# Altium footprint library Con 050 DSubminiature.PcbLib: 112 footprints (part 4 of 7)
Each footprint in its own frame and in the unit in brackets; x right, y up, seen from the top. Pads: shape width x height; smd on the part's side, far side on the other; paste and mask are expansions set on the pad; w line width, h text height; cw(c..) or ccw(c..) is an arc to the next point about the centre after c.
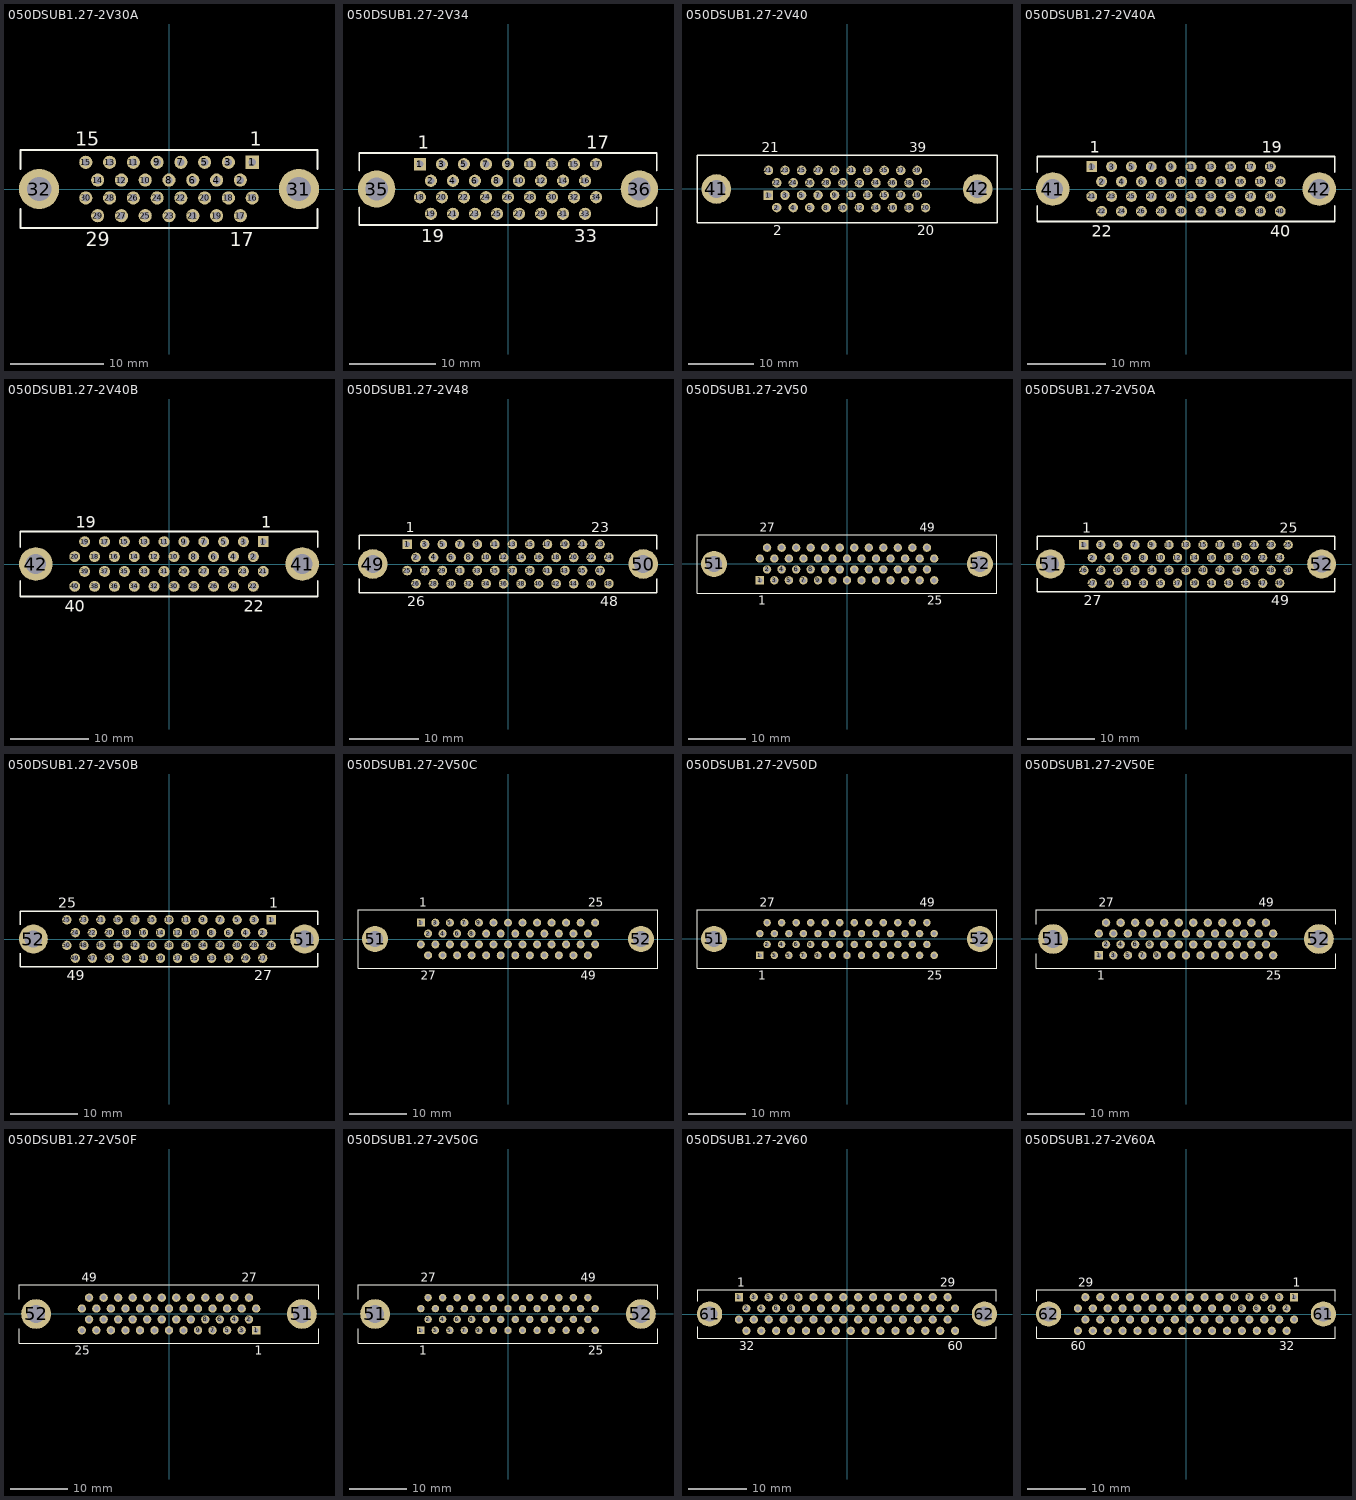
[diagram p3: the footprints below, top view; thin cyan lines are the x and y axes]

## 050DSUB1.27-2V30A [mm] "Connector; D Subminiature 050 Series; 30 Position; Vertical"
height 7.7
pads (32):
  rect 1.4x1.4 hole 0.8: 1(8.89,2.857)
  round 1.4 hole 0.8: 2(7.62,0.953) 3(6.35,2.857) 4(5.08,0.953) 5(3.81,2.857) 6(2.54,0.953) 7(1.27,2.857) 8(0,0.953) 9(-1.27,2.857) 10(-2.54,0.953) 11(-3.81,2.857) 12(-5.08,0.953) 13(-6.35,2.857) 14(-7.62,0.953) 15(-8.89,2.857) 16(8.89,-0.953) 17(7.62,-2.857) 18(6.35,-0.953) 19(5.08,-2.857) 20(3.81,-0.953) 21(2.54,-2.857) 22(1.27,-0.953) 23(0,-2.857) 24(-1.27,-0.953) 25(-2.54,-2.857) 26(-3.81,-0.953) 27(-5.08,-2.857) 28(-6.35,-0.953) 29(-7.62,-2.857) 30(-8.89,-0.953)
  round 4.3 hole 2.6: 31(13.875,0) 32(-13.875,0)
Top Overlay:
  lines w0.2: -15.875,-2.146 -15.875,-4.157 15.875,-4.157 15.875,-2.146 ; -15.875,2.146 -15.875,4.157 15.875,4.157 15.875,2.146
  text "17" at 6.495,-6.132 h1.5
  text "29" at -8.87,-6.132 h1.5
  text "15" at -10.015,4.633 h1.5
  text "1" at 8.64,4.633 h1.5

## 050DSUB1.27-2V34 [mm] "Connector; D Subminiature 050 Series; 34 Position; Vertical"
height 9.3
pads (36):
  rect 1.4x1.4 hole 0.8: 1(-10.16,2.857)
  round 1.4 hole 0.8: 2(-8.89,0.953) 3(-7.62,2.857) 4(-6.35,0.953) 5(-5.08,2.857) 6(-3.81,0.953) 7(-2.54,2.857) 8(-1.27,0.953) 9(0,2.857) 10(1.27,0.953) 11(2.54,2.857) 12(3.81,0.953) 13(5.08,2.857) 14(6.35,0.953) 15(7.62,2.857) 16(8.89,0.953) 17(10.16,2.857) 18(-10.16,-0.953) 19(-8.89,-2.857) 20(-7.62,-0.953) 21(-6.35,-2.857) 22(-5.08,-0.953) 23(-3.81,-2.857) 24(-2.54,-0.953) 25(-1.27,-2.857) 26(0,-0.953) 27(1.27,-2.857) 28(2.54,-0.953) 29(3.81,-2.857) 30(5.08,-0.953) 31(6.35,-2.857) 32(7.62,-0.953) 33(8.89,-2.857) 34(10.16,-0.953)
  round 4.3 hole 2.6: 35(-15.145,0) 36(15.145,0)
Top Overlay:
  lines w0.2: -17.145,-2.146 -17.145,-4.157 17.145,-4.157 17.145,-2.146 ; -17.145,2.146 -17.145,4.157 17.145,4.157 17.145,2.146
  text "1" at -10.41,4.633 h1.5
  text "17" at 9.035,4.633 h1.5
  text "19" at -10.015,-6.132 h1.5
  text "33" at 7.64,-6.132 h1.5

## 050DSUB1.27-2V40 [mm] "Connector; D Subminiature 050 Series; 40 Position; Vertical"
height 9.04
pads (42):
  rect 1.46x1.46 hole 0.86: 1(-12.065,-0.953)
  round 1.46 hole 0.86: 2(-10.795,-2.857) 3(-9.525,-0.953) 4(-8.255,-2.857) 5(-6.985,-0.953) 6(-5.715,-2.857) 7(-4.445,-0.953) 8(-3.175,-2.857) 9(-1.905,-0.953) 10(-0.635,-2.857) 11(0.635,-0.953) 12(1.905,-2.857) 13(3.175,-0.953) 14(4.445,-2.857) 15(5.715,-0.953) 16(6.985,-2.857) 17(8.255,-0.953) 18(9.525,-2.857) 19(10.795,-0.953) 20(12.065,-2.857) 21(-12.065,2.857) 22(-10.795,0.953) 23(-9.525,2.857) 24(-8.255,0.953) 25(-6.985,2.857) 26(-5.715,0.953) 27(-4.445,2.857) 28(-3.175,0.953) 29(-1.905,2.857) 30(-0.635,0.953) 31(0.635,2.857) 32(1.905,0.953) 33(3.175,2.857) 34(4.445,0.953) 35(5.715,2.857) 36(6.985,0.953) 37(8.255,2.857) 38(9.525,0.953) 39(10.795,2.857) 40(12.065,0.953)
  round 4.55 hole 2.77: 41(-20.065,0) 42(20.065,0)
Top Overlay:
  lines w0.2: -23.05,-5.155 -23.05,5.155 23.05,5.155 23.05,-5.155 -23.05,-5.155
  text "21" at -13.065,5.63 h1.5
  text "39" at 9.545,5.63 h1.5
  text "2" at -11.295,-7.13 h1.5
  text "20" at 10.815,-7.13 h1.5

## 050DSUB1.27-2V40A [mm] "Connector; D Subminiature 050 Series; 40 Position; Vertical"
height 9.3
pads (42):
  rect 1.4x1.4 hole 0.8: 1(-12.065,2.857)
  round 1.4 hole 0.8: 2(-10.795,0.953) 3(-9.525,2.857) 4(-8.255,0.953) 5(-6.985,2.857) 6(-5.715,0.953) 7(-4.445,2.857) 8(-3.175,0.953) 9(-1.905,2.857) 10(-0.635,0.953) 11(0.635,2.857) 12(1.905,0.953) 13(3.175,2.857) 14(4.445,0.953) 15(5.715,2.857) 16(6.985,0.953) 17(8.255,2.857) 18(9.525,0.953) 19(10.795,2.857) 20(12.065,0.953) 21(-12.065,-0.953) 22(-10.795,-2.857) 23(-9.525,-0.953) 24(-8.255,-2.857) 25(-6.985,-0.953) 26(-5.715,-2.857) 27(-4.445,-0.953) 28(-3.175,-2.857) 29(-1.905,-0.953) 30(-0.635,-2.857) 31(0.635,-0.953) 32(1.905,-2.857) 33(3.175,-0.953) 34(4.445,-2.857) 35(5.715,-0.953) 36(6.985,-2.857) 37(8.255,-0.953) 38(9.525,-2.857) 39(10.795,-0.953) 40(12.065,-2.857)
  round 4.3 hole 2.6: 41(-17.05,0) 42(17.05,0)
Top Overlay:
  lines w0.2: -19.05,-2.146 -19.05,-4.157 19.05,-4.157 19.05,-2.146 ; -19.05,2.146 -19.05,4.157 19.05,4.157 19.05,2.146
  text "1" at -12.315,4.633 h1.5
  text "22" at -12.045,-6.132 h1.5
  text "40" at 10.815,-6.132 h1.5
  text "19" at 9.67,4.633 h1.5

## 050DSUB1.27-2V40B [mm] "Connector; D Subminiature 050 Series; 40 Position; Vertical"
height 7.7
pads (42):
  rect 1.4x1.4 hole 0.8: 1(12.065,2.857)
  round 1.4 hole 0.8: 2(10.795,0.953) 3(9.525,2.857) 4(8.255,0.953) 5(6.985,2.857) 6(5.715,0.953) 7(4.445,2.857) 8(3.175,0.953) 9(1.905,2.857) 10(0.635,0.953) 11(-0.635,2.857) 12(-1.905,0.953) 13(-3.175,2.857) 14(-4.445,0.953) 15(-5.715,2.857) 16(-6.985,0.953) 17(-8.255,2.857) 18(-9.525,0.953) 19(-10.795,2.857) 20(-12.065,0.953) 21(12.065,-0.953) 22(10.795,-2.857) 23(9.525,-0.953) 24(8.255,-2.857) 25(6.985,-0.953) 26(5.715,-2.857) 27(4.445,-0.953) 28(3.175,-2.857) 29(1.905,-0.953) 30(0.635,-2.857) 31(-0.635,-0.953) 32(-1.905,-2.857) 33(-3.175,-0.953) 34(-4.445,-2.857) 35(-5.715,-0.953) 36(-6.985,-2.857) 37(-8.255,-0.953) 38(-9.525,-2.857) 39(-10.795,-0.953) 40(-12.065,-2.857)
  round 4.3 hole 2.6: 41(17.05,0) 42(-17.05,0)
Top Overlay:
  lines w0.2: -19.05,-2.146 -19.05,-4.157 19.05,-4.157 19.05,-2.146 ; -19.05,2.146 -19.05,4.157 19.05,4.157 19.05,2.146
  text "22" at 9.545,-6.132 h1.5
  text "40" at -13.315,-6.132 h1.5
  text "19" at -11.92,4.633 h1.5
  text "1" at 11.815,4.633 h1.5

## 050DSUB1.27-2V48 [mm] "Connector; D Subminiature 050 Series; 48 Position; Vertical"
height 9.3
pads (50):
  rect 1.4x1.4 hole 0.8: 1(-14.605,2.857)
  round 1.4 hole 0.8: 2(-13.335,0.953) 3(-12.065,2.857) 4(-10.795,0.953) 5(-9.525,2.857) 6(-8.255,0.953) 7(-6.985,2.857) 8(-5.715,0.953) 9(-4.445,2.857) 10(-3.175,0.953) 11(-1.905,2.857) 12(-0.635,0.953) 13(0.635,2.857) 14(1.905,0.953) 15(3.175,2.857) 16(4.445,0.953) 17(5.715,2.857) 18(6.985,0.953) 19(8.255,2.857) 20(9.525,0.953) 21(10.795,2.857) 22(12.065,0.953) 23(13.335,2.857) 24(14.605,0.953) 25(-14.605,-0.953) 26(-13.335,-2.857) 27(-12.065,-0.953) 28(-10.795,-2.857) 29(-9.525,-0.953) 30(-8.255,-2.857) 31(-6.985,-0.953) 32(-5.715,-2.857) 33(-4.445,-0.953) 34(-3.175,-2.857) 35(-1.905,-0.953) 36(-0.635,-2.857) 37(0.635,-0.953) 38(1.905,-2.857) 39(3.175,-0.953) 40(4.445,-2.857) 41(5.715,-0.953) 42(6.985,-2.857) 43(8.255,-0.953) 44(9.525,-2.857) 45(10.795,-0.953) 46(12.065,-2.857) 47(13.335,-0.953) 48(14.605,-2.857)
  round 4.3 hole 2.6: 49(-19.59,0) 50(19.59,0)
Top Overlay:
  lines w0.2: -21.59,-2.146 -21.59,-4.157 21.59,-4.157 21.59,-2.146 ; -21.59,2.146 -21.59,4.157 21.59,4.157 21.59,2.146
  text "1" at -14.855,4.633 h1.5
  text "23" at 12.085,4.633 h1.5
  text "26" at -14.585,-6.132 h1.5
  text "48" at 13.355,-6.132 h1.5

## 050DSUB1.27-2V50 [mm] "Connector; D Subminiature 050 Series; 50 Position; Vertical"
height 9.04
pads (52):
  rect 1.46x1.46 hole 0.86: 1(-15.24,-2.857)
  round 1.46 hole 0.86: 2(-13.97,-0.953) 3(-12.7,-2.857) 4(-11.43,-0.953) 5(-10.16,-2.857) 6(-8.89,-0.953) 7(-7.62,-2.857) 8(-6.35,-0.953) 9(-5.08,-2.857) 10(-3.81,-0.953) 11(-2.54,-2.857) 12(-1.27,-0.953) 13(0,-2.857) 14(1.27,-0.953) 15(2.54,-2.857) 16(3.81,-0.953) 17(5.08,-2.857) 18(6.35,-0.953) 19(7.62,-2.857) 20(8.89,-0.953) 21(10.16,-2.857) 22(11.43,-0.953) 23(12.7,-2.857) 24(13.97,-0.953) 25(15.24,-2.857) 26(-15.24,0.953) 27(-13.97,2.857) 28(-12.7,0.953) 29(-11.43,2.857) 30(-10.16,0.953) 31(-8.89,2.857) 32(-7.62,0.953) 33(-6.35,2.857) 34(-5.08,0.953) 35(-3.81,2.857) 36(-2.54,0.953) 37(-1.27,2.857) 38(0,0.953) 39(1.27,2.857) 40(2.54,0.953) 41(3.81,2.857) 42(5.08,0.953) 43(6.35,2.857) 44(7.62,0.953) 45(8.89,2.857) 46(10.16,0.953) 47(11.43,2.857) 48(12.7,0.953) 49(13.97,2.857) 50(15.24,0.953)
  round 4.55 hole 2.77: 51(-23.24,0) 52(23.24,0)
Top Overlay:
  lines w0.2: -26.225,-5.155 26.225,-5.155 26.225,5.155 -26.225,5.155 -26.225,-5.155
  text "49" at 12.72,5.63 h1.5
  text "27" at -15.22,5.63 h1.5
  text "25" at 13.99,-7.13 h1.5
  text "1" at -15.49,-7.13 h1.5

## 050DSUB1.27-2V50A [mm] "Connector; D Subminiature 050 Series; 50 Position; Vertical"
height 9.3
pads (52):
  rect 1.4x1.4 hole 0.8: 1(-15.24,2.857)
  round 1.4 hole 0.8: 2(-13.97,0.953) 3(-12.7,2.857) 4(-11.43,0.953) 5(-10.16,2.857) 6(-8.89,0.953) 7(-7.62,2.857) 8(-6.35,0.953) 9(-5.08,2.857) 10(-3.81,0.953) 11(-2.54,2.857) 12(-1.27,0.953) 13(0,2.857) 14(1.27,0.953) 15(2.54,2.857) 16(3.81,0.953) 17(5.08,2.857) 18(6.35,0.953) 19(7.62,2.857) 20(8.89,0.953) 21(10.16,2.857) 22(11.43,0.953) 23(12.7,2.857) 24(13.97,0.953) 25(15.24,2.857) 26(-15.24,-0.953) 27(-13.97,-2.857) 28(-12.7,-0.953) 29(-11.43,-2.857) 30(-10.16,-0.953) 31(-8.89,-2.857) 32(-7.62,-0.953) 33(-6.35,-2.857) 34(-5.08,-0.953) 35(-3.81,-2.857) 36(-2.54,-0.953) 37(-1.27,-2.857) 38(0,-0.953) 39(1.27,-2.857) 40(2.54,-0.953) 41(3.81,-2.857) 42(5.08,-0.953) 43(6.35,-2.857) 44(7.62,-0.953) 45(8.89,-2.857) 46(10.16,-0.953) 47(11.43,-2.857) 48(12.7,-0.953) 49(13.97,-2.857) 50(15.24,-0.953)
  round 4.3 hole 2.6: 51(-20.225,0) 52(20.225,0)
Top Overlay:
  lines w0.2: -22.225,-2.146 -22.225,-4.157 22.225,-4.157 22.225,-2.146 ; -22.225,2.146 -22.225,4.157 22.225,4.157 22.225,2.146
  text "27" at -15.22,-6.132 h1.5
  text "49" at 12.72,-6.132 h1.5
  text "25" at 13.99,4.633 h1.5
  text "1" at -15.49,4.633 h1.5

## 050DSUB1.27-2V50B [mm] "Connector; D Subminiature 050 Series; 50 Position; Vertical"
height 7.7
pads (52):
  rect 1.4x1.4 hole 0.8: 1(15.24,2.857)
  round 1.4 hole 0.8: 2(13.97,0.953) 3(12.7,2.857) 4(11.43,0.953) 5(10.16,2.857) 6(8.89,0.953) 7(7.62,2.857) 8(6.35,0.953) 9(5.08,2.857) 10(3.81,0.953) 11(2.54,2.857) 12(1.27,0.953) 13(0,2.857) 14(-1.27,0.953) 15(-2.54,2.857) 16(-3.81,0.953) 17(-5.08,2.857) 18(-6.35,0.953) 19(-7.62,2.857) 20(-8.89,0.953) 21(-10.16,2.857) 22(-11.43,0.953) 23(-12.7,2.857) 24(-13.97,0.953) 25(-15.24,2.857) 26(15.24,-0.953) 27(13.97,-2.857) 28(12.7,-0.953) 29(11.43,-2.857) 30(10.16,-0.953) 31(8.89,-2.857) 32(7.62,-0.953) 33(6.35,-2.857) 34(5.08,-0.953) 35(3.81,-2.857) 36(2.54,-0.953) 37(1.27,-2.857) 38(0,-0.953) 39(-1.27,-2.857) 40(-2.54,-0.953) 41(-3.81,-2.857) 42(-5.08,-0.953) 43(-6.35,-2.857) 44(-7.62,-0.953) 45(-8.89,-2.857) 46(-10.16,-0.953) 47(-11.43,-2.857) 48(-12.7,-0.953) 49(-13.97,-2.857) 50(-15.24,-0.953)
  round 4.3 hole 2.6: 51(20.225,0) 52(-20.225,0)
Top Overlay:
  lines w0.2: -22.225,-2.146 -22.225,-4.157 22.225,-4.157 22.225,-2.146 ; -22.225,2.146 -22.225,4.157 22.225,4.157 22.225,2.146
  text "27" at 12.72,-6.132 h1.5
  text "49" at -15.22,-6.132 h1.5
  text "25" at -16.49,4.633 h1.5
  text "1" at 14.99,4.633 h1.5

## 050DSUB1.27-2V50C [mm] "Connector; D Subminiature 050 Series; 50 Position; Vertical"
height 9.5
pads (52):
  rect 1.4x1.4 hole 0.8: 1(-15.24,2.857)
  round 1.4 hole 0.8: 2(-13.97,0.953) 3(-12.7,2.857) 4(-11.43,0.953) 5(-10.16,2.857) 6(-8.89,0.953) 7(-7.62,2.857) 8(-6.35,0.953) 9(-5.08,2.857) 10(-3.81,0.953) 11(-2.54,2.857) 12(-1.27,0.953) 13(0,2.857) 14(1.27,0.953) 15(2.54,2.857) 16(3.81,0.953) 17(5.08,2.857) 18(6.35,0.953) 19(7.62,2.857) 20(8.89,0.953) 21(10.16,2.857) 22(11.43,0.953) 23(12.7,2.857) 24(13.97,0.953) 25(15.24,2.857) 26(-15.24,-0.953) 27(-13.97,-2.857) 28(-12.7,-0.953) 29(-11.43,-2.857) 30(-10.16,-0.953) 31(-8.89,-2.857) 32(-7.62,-0.953) 33(-6.35,-2.857) 34(-5.08,-0.953) 35(-3.81,-2.857) 36(-2.54,-0.953) 37(-1.27,-2.857) 38(0,-0.953) 39(1.27,-2.857) 40(2.54,-0.953) 41(3.81,-2.857) 42(5.08,-0.953) 43(6.35,-2.857) 44(7.62,-0.953) 45(8.89,-2.857) 46(10.16,-0.953) 47(11.43,-2.857) 48(12.7,-0.953) 49(13.97,-2.857) 50(15.24,-0.953)
  round 4.55 hole 2.77: 51(-23.24,0) 52(23.24,0)
Top Overlay:
  lines w0.2: -26.225,-5.155 26.225,-5.155 26.225,5.155 -26.225,5.155 -26.225,-5.155
  text "1" at -15.49,5.63 h1.5
  text "25" at 13.99,5.63 h1.5
  text "27" at -15.22,-7.13 h1.5
  text "49" at 12.72,-7.13 h1.5

## 050DSUB1.27-2V50D [mil] "Connector; D Subminiature 050 Series; 50 Position; Vertical"
height 356.3
pads (52):
  rect 51.22x51.22 hole 27.6: 1(-600,-112.5)
  round 51.22 hole 27.6: 2(-550,-37.5) 3(-500,-112.5) 4(-450,-37.5) 5(-400,-112.5) 6(-350,-37.5) 7(-300,-112.5) 8(-250,-37.5) 9(-200,-112.5) 10(-150,-37.5) 11(-100,-112.5) 12(-50,-37.5) 13(0,-112.5) 14(50,-37.5) 15(100,-112.5) 16(150,-37.5) 17(200,-112.5) 18(250,-37.5) 19(300,-112.5) 20(350,-37.5) 21(400,-112.5) 22(450,-37.5) 23(500,-112.5) 24(550,-37.5) 25(600,-112.5) 26(-600,37.5) 27(-550,112.5) 28(-500,37.5) 29(-450,112.5) 30(-400,37.5) 31(-350,112.5) 32(-300,37.5) 33(-250,112.5) 34(-200,37.5) 35(-150,112.5) 36(-100,37.5) 37(-50,112.5) 38(0,37.5) 39(50,112.5) 40(100,37.5) 41(150,112.5) 42(200,37.5) 43(250,112.5) 44(300,37.5) 45(350,112.5) 46(400,37.5) 47(450,112.5) 48(500,37.5) 49(550,112.5) 50(600,37.5)
  round 179.13 hole 109.06: 51(-914.96,0) 52(914.96,0)
Top Overlay:
  lines w7.87: -1032.48,-202.95 -1032.48,202.95 1032.48,202.95 1032.48,-202.95 -1032.48,-202.95
  text "49" at 500.79,221.65 h59.06
  text "27" at -599.21,221.65 h59.06
  text "25" at 550.79,-280.71 h59.06
  text "1" at -609.84,-280.71 h59.06

## 050DSUB1.27-2V50E [mm] "Connector; D Subminiature 050 Series; 50 Position; Vertical"
height 8.83
pads (52):
  rect 1.46x1.46 hole 0.86: 1(-15.24,-2.857)
  round 1.46 hole 0.86: 2(-13.97,-0.953) 3(-12.7,-2.857) 4(-11.43,-0.953) 5(-10.16,-2.857) 6(-8.89,-0.953) 7(-7.62,-2.857) 8(-6.35,-0.953) 9(-5.08,-2.857) 10(-3.81,-0.953) 11(-2.54,-2.857) 12(-1.27,-0.953) 13(0,-2.857) 14(1.27,-0.953) 15(2.54,-2.857) 16(3.81,-0.953) 17(5.08,-2.857) 18(6.35,-0.953) 19(7.62,-2.857) 20(8.89,-0.953) 21(10.16,-2.857) 22(11.43,-0.953) 23(12.7,-2.857) 24(13.97,-0.953) 25(15.24,-2.857) 26(-15.24,0.953) 27(-13.97,2.857) 28(-12.7,0.953) 29(-11.43,2.857) 30(-10.16,0.953) 31(-8.89,2.857) 32(-7.62,0.953) 33(-6.35,2.857) 34(-5.08,0.953) 35(-3.81,2.857) 36(-2.54,0.953) 37(-1.27,2.857) 38(0,0.953) 39(1.27,2.857) 40(2.54,0.953) 41(3.81,2.857) 42(5.08,0.953) 43(6.35,2.857) 44(7.62,0.953) 45(8.89,2.857) 46(10.16,0.953) 47(11.43,2.857) 48(12.7,0.953) 49(13.97,2.857) 50(15.24,0.953)
  round 5.2 hole 3.18: 51(-23.24,0) 52(23.24,0)
Top Overlay:
  lines w0.2: -26.225,-2.592 -26.225,-5.155 26.225,-5.155 26.225,-2.592 ; -26.225,2.592 -26.225,5.155 26.225,5.155 26.225,2.592
  text "49" at 12.72,5.63 h1.5
  text "27" at -15.22,5.63 h1.5
  text "25" at 13.99,-7.13 h1.5
  text "1" at -15.49,-7.13 h1.5

## 050DSUB1.27-2V50F [mm] "Connector; D Subminiature 050 Series; 50 Position; Vertical"
height 9.7
pads (52):
  rect 1.46x1.46 hole 0.86: 1(15.24,-2.857)
  round 1.46 hole 0.86: 2(13.97,-0.953) 3(12.7,-2.857) 4(11.43,-0.953) 5(10.16,-2.857) 6(8.89,-0.953) 7(7.62,-2.857) 8(6.35,-0.953) 9(5.08,-2.857) 10(3.81,-0.953) 11(2.54,-2.857) 12(1.27,-0.953) 13(0,-2.857) 14(-1.27,-0.953) 15(-2.54,-2.857) 16(-3.81,-0.953) 17(-5.08,-2.857) 18(-6.35,-0.953) 19(-7.62,-2.857) 20(-8.89,-0.953) 21(-10.16,-2.857) 22(-11.43,-0.953) 23(-12.7,-2.857) 24(-13.97,-0.953) 25(-15.24,-2.857) 26(15.24,0.953) 27(13.97,2.857) 28(12.7,0.953) 29(11.43,2.857) 30(10.16,0.953) 31(8.89,2.857) 32(7.62,0.953) 33(6.35,2.857) 34(5.08,0.953) 35(3.81,2.857) 36(2.54,0.953) 37(1.27,2.857) 38(0,0.953) 39(-1.27,2.857) 40(-2.54,0.953) 41(-3.81,2.857) 42(-5.08,0.953) 43(-6.35,2.857) 44(-7.62,0.953) 45(-8.89,2.857) 46(-10.16,0.953) 47(-11.43,2.857) 48(-12.7,0.953) 49(-13.97,2.857) 50(-15.24,0.953)
  round 5.2 hole 3.18: 51(23.24,0) 52(-23.24,0)
Top Overlay:
  lines w0.2: -26.225,-2.592 -26.225,-5.155 26.225,-5.155 26.225,-2.592 ; -26.225,2.592 -26.225,5.155 26.225,5.155 26.225,2.592
  text "1" at 14.99,-7.13 h1.5
  text "25" at -16.49,-7.13 h1.5
  text "27" at 12.72,5.63 h1.5
  text "49" at -15.22,5.63 h1.5

## 050DSUB1.27-2V50G [mil] "Connector; D Subminiature 050 Series; 50 Position; Vertical"
height 348.03
pads (52):
  rect 51.22x51.22 hole 27.6: 1(-600,-112.5)
  round 51.22 hole 27.6: 2(-550,-37.5) 3(-500,-112.5) 4(-450,-37.5) 5(-400,-112.5) 6(-350,-37.5) 7(-300,-112.5) 8(-250,-37.5) 9(-200,-112.5) 10(-150,-37.5) 11(-100,-112.5) 12(-50,-37.5) 13(0,-112.5) 14(50,-37.5) 15(100,-112.5) 16(150,-37.5) 17(200,-112.5) 18(250,-37.5) 19(300,-112.5) 20(350,-37.5) 21(400,-112.5) 22(450,-37.5) 23(500,-112.5) 24(550,-37.5) 25(600,-112.5) 26(-600,37.5) 27(-550,112.5) 28(-500,37.5) 29(-450,112.5) 30(-400,37.5) 31(-350,112.5) 32(-300,37.5) 33(-250,112.5) 34(-200,37.5) 35(-150,112.5) 36(-100,37.5) 37(-50,112.5) 38(0,37.5) 39(50,112.5) 40(100,37.5) 41(150,112.5) 42(200,37.5) 43(250,112.5) 44(300,37.5) 45(350,112.5) 46(400,37.5) 47(450,112.5) 48(500,37.5) 49(550,112.5) 50(600,37.5)
  round 204.72 hole 125.2: 51(-914.96,0) 52(914.96,0)
Top Overlay:
  lines w7.87: -1032.48,-102.06 -1032.48,-202.95 1032.48,-202.95 1032.48,-102.06 ; -1032.48,102.06 -1032.48,202.95 1032.48,202.95 1032.48,102.06
  text "1" at -609.84,-280.71 h59.06
  text "25" at 550.79,-280.71 h59.06
  text "27" at -599.21,221.65 h59.06
  text "49" at 500.79,221.65 h59.06

## 050DSUB1.27-2V60 [mm] "Connector; D Subminiature 050 Series; 60 Position; Vertical"
height 9.3
pads (62):
  rect 1.4x1.4 hole 0.8: 1(-18.415,2.857)
  round 1.4 hole 0.8: 2(-17.145,0.953) 3(-15.875,2.857) 4(-14.605,0.953) 5(-13.335,2.857) 6(-12.065,0.953) 7(-10.795,2.857) 8(-9.525,0.953) 9(-8.255,2.857) 10(-6.985,0.953) 11(-5.715,2.857) 12(-4.445,0.953) 13(-3.175,2.857) 14(-1.905,0.953) 15(-0.635,2.857) 16(0.635,0.953) 17(1.905,2.857) 18(3.175,0.953) 19(4.445,2.857) 20(5.715,0.953) 21(6.985,2.857) 22(8.255,0.953) 23(9.525,2.857) 24(10.795,0.953) 25(12.065,2.857) 26(13.335,0.953) 27(14.605,2.857) 28(15.875,0.953) 29(17.145,2.857) 30(18.415,0.953) 31(-18.415,-0.953) 32(-17.145,-2.857) 33(-15.875,-0.953) 34(-14.605,-2.857) 35(-13.335,-0.953) 36(-12.065,-2.857) 37(-10.795,-0.953) 38(-9.525,-2.857) 39(-8.255,-0.953) 40(-6.985,-2.857) 41(-5.715,-0.953) 42(-4.445,-2.857) 43(-3.175,-0.953) 44(-1.905,-2.857) 45(-0.635,-0.953) 46(0.635,-2.857) 47(1.905,-0.953) 48(3.175,-2.857) 49(4.445,-0.953) 50(5.715,-2.857) 51(6.985,-0.953) 52(8.255,-2.857) 53(9.525,-0.953) 54(10.795,-2.857) 55(12.065,-0.953) 56(13.335,-2.857) 57(14.605,-0.953) 58(15.875,-2.857) 59(17.145,-0.953) 60(18.415,-2.857)
  round 4.3 hole 2.6: 61(-23.4,0) 62(23.4,0)
Top Overlay:
  lines w0.2: -25.4,-2.146 -25.4,-4.157 25.4,-4.157 25.4,-2.146 ; -25.4,2.146 -25.4,4.157 25.4,4.157 25.4,2.146
  text "1" at -18.665,4.633 h1.5
  text "60" at 17.165,-6.132 h1.5
  text "32" at -18.395,-6.132 h1.5
  text "29" at 15.895,4.633 h1.5

## 050DSUB1.27-2V60A [mm] "Connector; D Subminiature 050 Series; 60 Position; Vertical"
height 7.7
pads (62):
  rect 1.4x1.4 hole 0.8: 1(18.415,2.857)
  round 1.4 hole 0.8: 2(17.145,0.953) 3(15.875,2.857) 4(14.605,0.953) 5(13.335,2.857) 6(12.065,0.953) 7(10.795,2.857) 8(9.525,0.953) 9(8.255,2.857) 10(6.985,0.953) 11(5.715,2.857) 12(4.445,0.953) 13(3.175,2.857) 14(1.905,0.953) 15(0.635,2.857) 16(-0.635,0.953) 17(-1.905,2.857) 18(-3.175,0.953) 19(-4.445,2.857) 20(-5.715,0.953) 21(-6.985,2.857) 22(-8.255,0.953) 23(-9.525,2.857) 24(-10.795,0.953) 25(-12.065,2.857) 26(-13.335,0.953) 27(-14.605,2.857) 28(-15.875,0.953) 29(-17.145,2.857) 30(-18.415,0.953) 31(18.415,-0.953) 32(17.145,-2.857) 33(15.875,-0.953) 34(14.605,-2.857) 35(13.335,-0.953) 36(12.065,-2.857) 37(10.795,-0.953) 38(9.525,-2.857) 39(8.255,-0.953) 40(6.985,-2.857) 41(5.715,-0.953) 42(4.445,-2.857) 43(3.175,-0.953) 44(1.905,-2.857) 45(0.635,-0.953) 46(-0.635,-2.857) 47(-1.905,-0.953) 48(-3.175,-2.857) 49(-4.445,-0.953) 50(-5.715,-2.857) 51(-6.985,-0.953) 52(-8.255,-2.857) 53(-9.525,-0.953) 54(-10.795,-2.857) 55(-12.065,-0.953) 56(-13.335,-2.857) 57(-14.605,-0.953) 58(-15.875,-2.857) 59(-17.145,-0.953) 60(-18.415,-2.857)
  round 4.3 hole 2.6: 61(23.4,0) 62(-23.4,0)
Top Overlay:
  lines w0.2: -25.4,-2.146 -25.4,-4.157 25.4,-4.157 25.4,-2.146 ; -25.4,2.146 -25.4,4.157 25.4,4.157 25.4,2.146
  text "1" at 18.165,4.633 h1.5
  text "29" at -18.395,4.633 h1.5
  text "60" at -19.665,-6.132 h1.5
  text "32" at 15.895,-6.132 h1.5